# EAGLE library part FDMS4435BZ (library FDMS4435BZ)
MOSFET PowerTrench P-Ch 30V 18A Power56 Source: Datasheet <https://www.onsemi.com/pdf/datasheet/fdms4435bz-d.pdf>
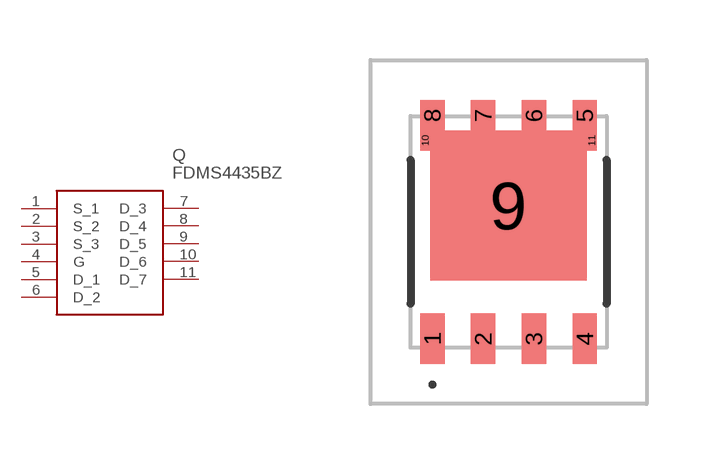
[diagram p0: symbol with the pads of FDMS4435BZ; footprint FDMS4435BZ]

Designator prefix Q

## FDMS4435BZ (Arrow_Part_Number: FDMS4435BZ; Arrow_Price-Stock: https://www.arrow.com/en/products/fdms4435bz/on-semiconductor?region=nac; Description: MOSFET PowerTrench P-Ch 30V 18A Power56; Height: 1.1mm; Manufacturer_Name: onsemi; Manufacturer_Part_Number: FDMS4435BZ; Mouser_Part_Number: 512-FDMS4435BZ; Mouser_Price-Stock: http://www.mouser.com/Search/ProductDetail.aspx?qs=iQhsftLtcNQ543GBt6dzQg%3d%3d)  [FDMS4435BZ]
1  S_1
2  S_2
3  S_3
4  G
5  D_1
6  D_2
7  D_3
8  D_4
9  D_5
10  D_6
11  D_7

## Footprint FDMS4435BZ (pad centres in mm)
PQFN8 5X6, 1.27P CASE 483AE ISSUE B_2021
smd 0.61 x 1.27: 1 -1.905,-2.67; 2 -0.635,-2.67; 3 0.635,-2.67; 4 1.905,-2.67
smd 0.61 x 0.77: 5 1.905,2.92; 6 0.635,2.92; 7 -0.635,2.92; 8 -1.905,2.92
smd 3.91 x 3.75: 9 0,0.66
smd 0.25 x 0.5: 10 -2.081,2.285; 11 2.081,2.285